# Altium footprint library common.PcbLib: 93 footprints (part 4 of 6)
Each footprint in its own frame and in the unit in brackets; x right, y up, seen from the top. Pads: shape width x height; smd on the part's side, far side on the other; paste and mask are expansions set on the pad; w line width, h text height; cw(c..) or ccw(c..) is an arc to the next point about the centre after c.
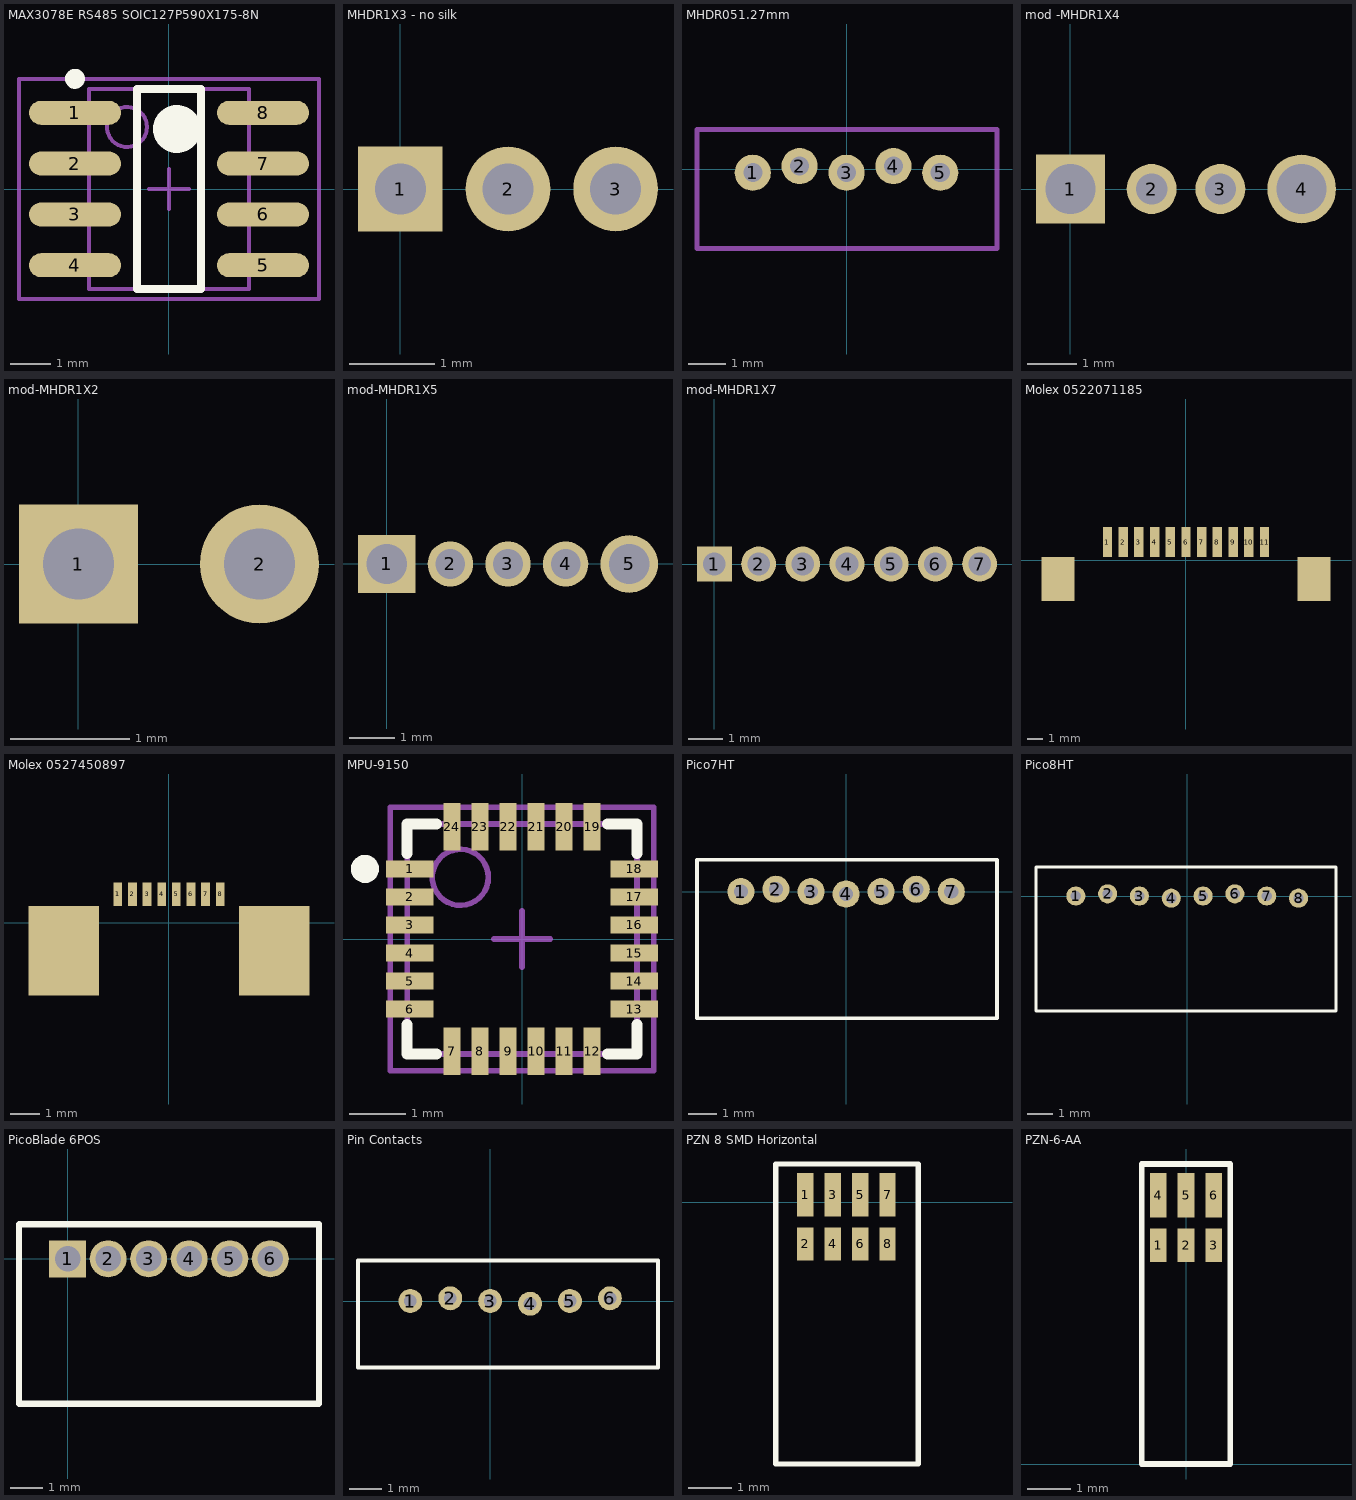
[diagram p3: the footprints below, top view; thin cyan lines are the x and y axes]

## MAX3078E RS485 SOIC127P590X175-8N [mm] "SOIC, 8-Leads, Body 5.0x4.0mm (max), Pitch 1.27mm, IPC Medium Density"
height 1.75
pads (8):
  oval 2.3x0.6 smd: 1(-2.35,1.905) 2(-2.35,0.635) 3(-2.35,-0.635) 4(-2.35,-1.905) 5(2.35,-1.905) 6(2.35,-0.635) 7(2.35,0.635) 8(2.35,1.905)
Top Overlay:
  circle w0.6: c0.2,1.5 r0.3
  circle w0.25: c-2.35,2.755 r0.125
  lines w0.2: -0.8,-2.5 0.8,-2.5 0.8,2.5 -0.8,2.5 -0.8,-2.5
Mechanical 13:
  circle w0.1: c-1.05,1.55 r0.5
  lines w0.1: -2,-2.5 2,-2.5 2,2.5 -2,2.5 -2,-2.5
Mechanical 15:
  lines w0.1: -0.5,0 0.5,0 ; 0,-0.5 0,0.5 ; -3.75,-2.75 3.75,-2.75 3.75,2.75 -3.75,2.75 -3.75,-2.75
3D body: height 1.75, standoff 0.1, extent -2,-2.5 2,2.5

## MHDR1X3 - no silk [mm] "Connector; Header; 3 Position"
pads (3):
  rect 1x1 hole 0.6: 1(0,0)
  round 1 hole 0.6: 2(1.27,0) 3(2.54,0)

## MHDR051.27mm [mil] "5 Pos Picoblade Vert Thru"
pads (5):
  round 38 hole 20: 1(-98.43,-3.5) 2(-49.21,3.5) 3(0,-3.5) 4(49.21,3.5) 5(98.43,-3.5)
Mechanical 15:
  lines w5: -157,-82.98 -157,41.78 158,41.78 158,-82.98 -157,-82.98

## mod -MHDR1X4 [mil] "Connector; Header; 4 Position"
pads (4):
  rect 55x55 hole 40: 1(0,0)
  round 40 hole 25: 2(65,0) 3(120,0)
  round 55 hole 40: 4(185,0)

## mod-MHDR1X2 [mm] "Connector; Header; 2 Position"
pads (2):
  rect 1x1 hole 0.6: 1(0,0)
  round 1 hole 0.6: 2(1.524,0)

## mod-MHDR1X5 [mm] "Connector; Header; 5 Position"
pads (5):
  rect 1.27x1.27 hole 0.889: 1(0,0)
  round 1 hole 0.65: 2(1.397,0) 3(2.667,0) 4(3.937,0)
  round 1.27 hole 0.889: 5(5.334,0)

## mod-MHDR1X7 [mm] "Connector; Header; 7 Position"
pads (7):
  rect 1x1 hole 0.65: 1(0,0)
  round 1 hole 0.65: 2(1.27,0) 3(2.54,0) 4(3.81,0) 5(5.08,0) 6(6.35,0) 7(7.62,0)

## Molex 0522071185 [mm]
pads (13):
  rect 0.6x1.9 smd: 1(-5,1.175) 2(-4,1.175) 3(-3,1.175) 4(-2,1.175) 5(-1,1.175) 6(0,1.175) 7(1,1.175) 8(2,1.175) 9(3,1.175) 10(4,1.175) 11(5,1.175)
  rect 2.1x2.8 smd: ""(-8.15,-1.175) ""(8.15,-1.175)
3D body: height 2.72, standoff 0.02, extent -8.65,-6.925 8.65,1.975

## Molex 0527450897 [mm] "0527450897 Molex FFC"
pads (11):
  rect 0.3x0.8 smd: 1(-1.75,0.962) 1(-1.75,0.962) 2(-1.25,0.962) 3(-0.75,0.962) 4(-0.25,0.962) 5(0.25,0.962) 6(0.75,0.962) 7(1.25,0.962) 8(1.75,0.962)
  rect 2.4x3.05 smd: ""(-3.6,-0.962) ""(3.6,-0.962)
3D body: height 2, standoff 0, extent -5.024,-5.166 5.076,1.234

## MPU-9150 [mm] "QFN, 24-Leads, Body 4.1x4.1mm (max), Pitch 0.50mm, IPC High Density"
height 1.1
pads (24):
  rect 0.85x0.3 smd: 1(-2,1.25) 2(-2,0.75) 3(-2,0.25) 4(-2,-0.25) 5(-2,-0.75) 6(-2,-1.25) 13(2,-1.25) 14(2,-0.75) 15(2,-0.25) 16(2,0.25) 17(2,0.75) 18(2,1.25)
  rect 0.3x0.85 smd: 7(-1.25,-2) 8(-0.75,-2) 9(-0.25,-2) 10(0.25,-2) 11(0.75,-2) 12(1.25,-2) 19(1.25,2) 20(0.75,2) 21(0.25,2) 22(-0.25,2) 23(-0.75,2) 24(-1.25,2)
Top Overlay:
  circle w0.25: c-2.8,1.25 r0.125
  lines w0.2: -2.05,-1.525 -2.05,-2.05 -1.525,-2.05 ; -2.05,1.525 -2.05,2.05 -1.525,2.05 ; 1.525,-2.05 2.05,-2.05 2.05,-1.525 ; 1.525,2.05 2.05,2.05 2.05,1.525
Mechanical 13:
  circle w0.1: c-1.1,1.1 r0.5
  lines w0.1: -2.05,-2.05 2.05,-2.05 2.05,2.05 -2.05,2.05 -2.05,-2.05
Mechanical 15:
  lines w0.1: -0.5,0 0.5,0 ; 0,-0.5 0,0.5 ; -2.35,-2.35 2.35,-2.35 2.35,2.35 -2.35,2.35 -2.35,-2.35
3D body: height 1.1, standoff 0, extent -2.05,-2.05 2.05,2.05

## Pico7HT [mil] "Molex Picoblade 7-Contact Horiz Thru"
pads (7):
  round 38 hole 20: 1(-147.64,0) 2(-98.43,3.35) 3(-49.21,0) 4(0,-3.35) 5(49.21,0) 6(98.43,3.35) 7(147.64,0)
Top Overlay:
  lines w5: -209.21,-178 -209.21,45 211.79,45 211.79,-178 -209.21,-178
3D body: height 138.4, standoff -89.95, extent -204.91,-175.27 208.48,41.27

## Pico8HT [mm] "Molex Picoblade 8-Contact Horiz Thru"
pads (8):
  round 0.75 hole 0.4: 1(-4.375,0) 2(-3.125,0.085) 3(-1.875,0) 4(-0.625,-0.085) 5(0.625,0) 6(1.875,0.085) 7(3.125,0) 8(4.375,-0.085)
Top Overlay:
  lines w0.127: -5.939,-4.521 -5.939,1.143 5.847,1.143 5.847,-4.521 -5.939,-4.521
3D body: height 3.52, standoff -2.28, extent -5.87,-4.528 5.88,0.972

## PicoBlade 6POS [mil] "PicoBlade 6 Position"
height 137.8
pads (6):
  rect 45x45 hole 31 mask+2.5: 1(0,0)
  round 45 hole 31 mask+2.5: 2(49.21,0) 3(98.43,0) 4(147.64,0) 5(196.85,0) 6(246.06,0)
Top Overlay:
  lines w7.87: -59.06,-175.2 -59.06,41.34 ; -59,-176 305.17,-176 ; -59,42 305.17,42 ; 305.25,-174.54 305.25,42

## Pin Contacts [mm] "5-Pin Contacts"
pads (6):
  round 0.75 hole 0.4: 1(-2.5,0) 2(-1.25,0.085) 3(0,0) 4(1.25,-0.085) 5(2.5,0) 6(3.75,0.085)
Top Overlay:
  lines w0.127: -4.14,-2.083 5.258,-2.083 5.258,1.27 -4.14,1.27 -4.14,-2.083
3D body: height 4.2, standoff -2.2, extent -4.066,-2.006 5.184,1.194

## PZN 8 SMD Horizontal [mil] "PZN 8 SMD Horizontal"
height 80
pads (8):
  rect 15x40 smd: 1(157,7) 3(182,7) 5(207,7) 7(232.01,7.01)
  rect 15x30 smd: 2(157,-38) 4(182,-38) 6(207,-38) 8(232.01,-38)
Top Overlay:
  lines w5: 130,-239 130,35 260,35 260,-239 130,-239
3D body: height 80, standoff 0, extent 132.51,-237 257.51,20

## PZN-6-AA [mil] "Omnetics Polarized Nano Connector 6 Conductor"
height 80
pads (6):
  rect 15x30 smd: 1(-25,197) 2(0,197) 3(25,197)
  rect 15x40 smd: 4(-25,242) 5(0,242) 6(25,242)
Top Overlay:
  lines w5: -40,0 -40,270 40,270 40,0 -40,0